# Altium footprint library 蜂鸣器.PcbLib: 1 footprints
Each footprint in its own frame and in the unit in brackets; x right, y up, seen from the top. Pads: shape width x height; smd on the part's side, far side on the other; paste and mask are expansions set on the pad; w line width, h text height; cw(c..) or ccw(c..) is an arc to the next point about the centre after c.
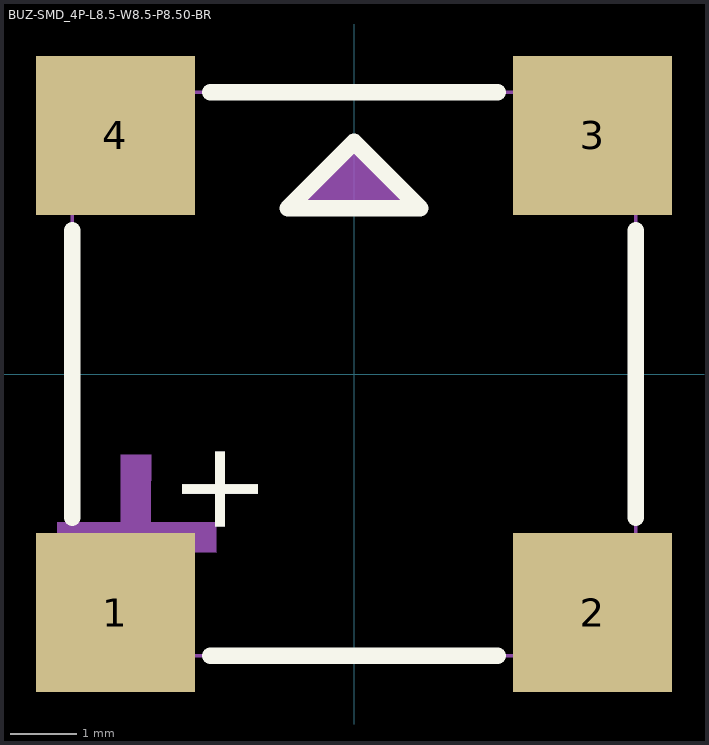
[diagram p0: the footprint, top view; thin cyan lines are the x and y axes]

## BUZ-SMD_4P-L8.5-W8.5-P8.50-BR [mm]
pads (4):
  rect 2.4x2.4 smd: 1(-3.6,-3.6) 2(3.6,-3.6) 3(3.6,3.6) 4(-3.6,3.6)
Top Overlay:
  lines w0.254: -4.25,-2.169 -4.25,2.169 ; -2.169,-4.25 2.169,-4.25 ; -2.169,4.25 2.168,4.25 ; 4.25,-2.169 4.25,2.169 ; -1,2.5 1,2.5 0,3.5 -1,2.5
  text "+" at -1.446,-2.5 h1.33
Mechanical 6:
  region: -4.48,-2.68 -4.48,-2.24 -2.08,-2.24 -2.08,-2.7
  region: -3.08,-3.617 -3.52,-3.617 -3.52,-1.217 -3.06,-1.217
  region: -1,2.48 0.94,2.48 -0.04,3.46
Mechanical 15:
  region: -4.19,-4.25 -4.19,-4.225 -4.225,-4.19 -4.275,-4.19 -4.31,-4.225 -4.31,-4.25 -4.31,-4.275 -4.275,-4.31 -4.225,-4.31 -4.19,-4.275 -4.19,-4.25
  region: -4.25,-4.25 -4.25,-3.05 -3.05,-3.05 -3.05,-4.25
  region: -4.25,3.05 -4.25,4.25 -3.05,4.25 -3.05,3.05
  region: 3.05,3.05 3.05,4.25 4.25,4.25 4.25,3.05
  region: 3.05,-4.25 3.05,-3.05 4.25,-3.05 4.25,-4.25
  lines w0.051: -4.25,-4.25 -4.25,4.25 4.25,4.25 4.25,-4.25 -4.25,-4.25